# Altium footprint library LicheeDan.PcbLib: 15 footprints
Each footprint in its own frame and in the unit in brackets; x right, y up, seen from the top. Pads: shape width x height; smd on the part's side, far side on the other; paste and mask are expansions set on the pad; w line width, h text height; cw(c..) or ccw(c..) is an arc to the next point about the centre after c.
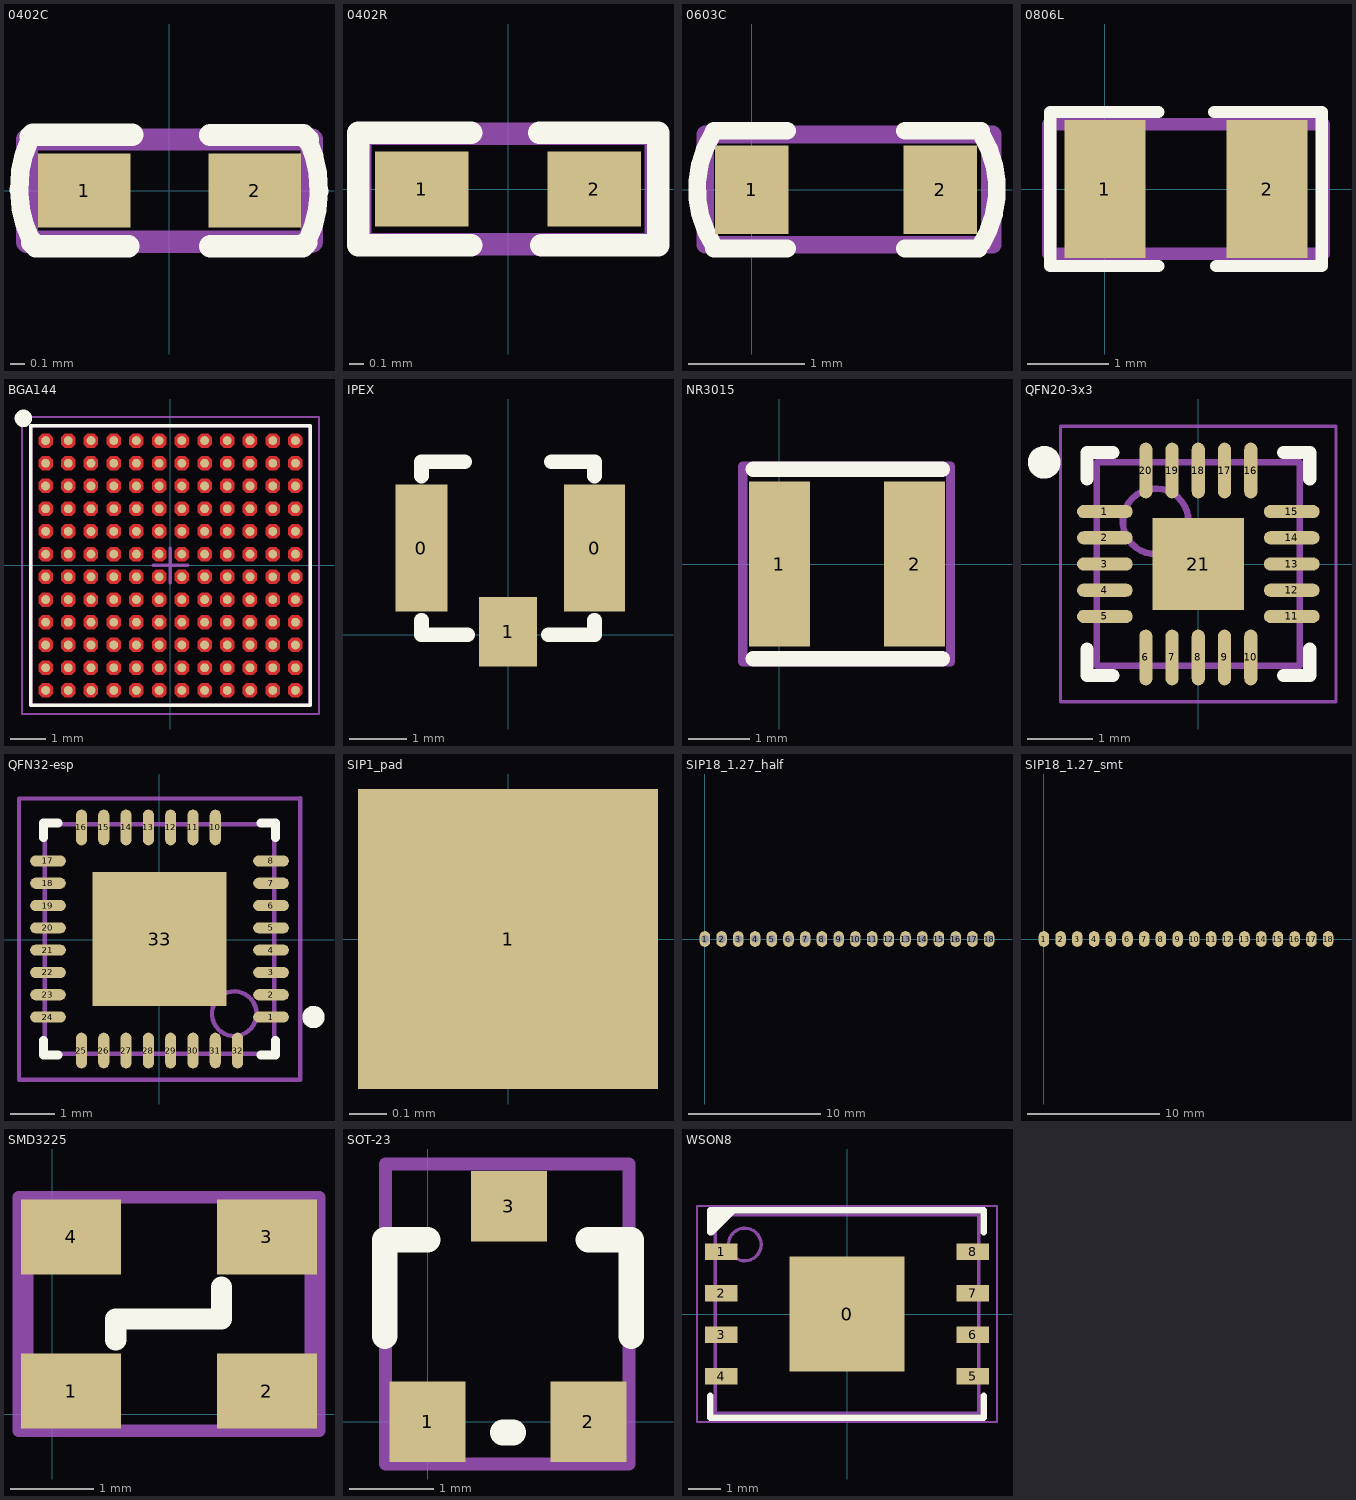
[diagram p0: the footprints below, top view; thin cyan lines are the x and y axes]

## 0402C [mil]
pads (2):
  rect 25x20 smd: 1(-23,0) 2(23,0)
Top Overlay:
  lines w5: -37.39,14.51 ccw(c-8.69,0.64) -37,-14 ; 37,-14 ccw(c8.49,0.25) 37.37,13.73
  lines w6: -37.39,14.51 -36.84,15.06 -10,15.06 ; -37,-14 -36,-15 -11,-15 ; 11,-15 36,-15 37,-14 ; 11,15 36.11,15 37.37,13.73
Mechanical 13:
  lines w6: -38.39,-13.78 38.39,-13.78 38.39,13.78 -38.39,13.78 -38.39,-13.78
  text ".Designator" at -10,-10 h20
Mechanical 15:
  lines w6: -38.39,-13.78 -38.39,13.78 38.39,13.78 38.39,-13.78 -38.39,-13.78
  text ".Comment" at -10,-10 h20
3D body "0402 SMD Capacitor.step": height 7.95, standoff 0, extent -19.68,-11.81 19.69,11.81

## 0402R [mil]
height 47.24
pads (2):
  rect 25x20 smd: 1(-23,0) 2(23,0)
Top Overlay:
  lines w6: -9.84,-15 -40,-15 -40,15 -9.84,15 ; 8.37,15 40,15 40,-15 8.86,-15
Mechanical 13:
  lines w6: -39.37,-14.76 39.37,-14.76 39.37,14.76 -39.37,14.76 -39.37,-14.76
  text ".Designator" at -35.43,-7.87 h20
Mechanical 15:
  lines w6: -39.37,-14.76 -39.37,14.76 39.37,14.76 39.37,-14.76 -39.37,-14.76
  text ".Comment" at -35.43,-11.81 h20
3D body "User Library-RES_1005-0402.STEP": height 16.14, standoff 0, extent -22.63,-10.82 22.64,10.83

## 0603C [mil]
pads (2):
  rect 25x30 smd: 1(0,0) 2(64,0)
Top Overlay:
  lines w6: -13.18,18.94 ccw(c16.81,0.23) -12.8,-19.09 ; -12.8,-20 12,-20 ; -12.8,20 12,20 ; 52,-20 77,-20 ; 52,20 77.93,20 ; 77.76,-18.7 ccw(c47.86,0.18) 77.93,18.78
Mechanical 13:
  lines w6: -15.75,-18.7 81.69,-18.7 81.69,18.7 -15.75,18.7 -15.75,-18.7
  text ".Designator" at -15.75,-7.87 h20
Mechanical 15:
  lines w6: -15.75,-18.7 -15.75,18.7 80.71,18.7 80.71,-18.7 -15.75,-18.7
  text ".Comment" at -15.75,-7.87 h20
3D body "User Library-0603 SMD Capacitor.STEP": height 11.89, standoff 0, extent 0,-15.75 62.99,15.75

## 0806L [mm]
height 0.254
pads (2):
  rect 1x1.7 smd: 1(0,0) 2(2,0)
Top Overlay:
  lines w0.152: 0.66,-0.95 -0.675,-0.95 -0.675,0.95 0.66,0.95 ; 1.346,0.95 2.675,0.95 2.675,-0.95 1.372,-0.95
Mechanical 13:
  lines w0.152: -0.7,-0.8 -0.7,0.8 2.7,0.8 2.7,-0.8 -0.7,-0.8
  text ".Designator" at -0.476,-0.469 h0.51
Mechanical 15:
  lines w0.152: -0.675,-0.8 2.7,-0.8 2.7,0.8 -0.675,0.8 -0.675,-0.8
  text ".Comment" at -0.6,-0.2 h0.51
3D body "User Library-0805 SMD R.STEP": height 0.77, standoff -0.01, extent 0,-0.625 2,0.625

## BGA144 [mm]
pads (144):
  round 0.254 smd mask+0.076: A1(-3.575,3.575) A2(-2.925,3.575) A3(-2.275,3.575) A4(-1.625,3.575) A5(-0.975,3.575) A6(-0.325,3.575) A7(0.325,3.575) A8(0.975,3.575) A9(1.625,3.575) A10(2.275,3.575) A11(2.925,3.575) A12(3.575,3.575) B1(-3.575,2.925) B2(-2.925,2.925) B3(-2.275,2.925) B4(-1.625,2.925) B5(-0.975,2.925) B6(-0.325,2.925) B7(0.325,2.925) B8(0.975,2.925) B9(1.625,2.925) B10(2.275,2.925) B11(2.925,2.925) B12(3.575,2.925) C1(-3.575,2.275) C2(-2.925,2.275) C3(-2.275,2.275) C4(-1.625,2.275) C5(-0.975,2.275) C6(-0.325,2.275) C7(0.325,2.275) C8(0.975,2.275) C9(1.625,2.275) C10(2.275,2.275) C11(2.925,2.275) C12(3.575,2.275) D1(-3.575,1.625) D2(-2.925,1.625) D3(-2.275,1.625) D4(-1.625,1.625) D5(-0.975,1.625) D6(-0.325,1.625) D7(0.325,1.625) D8(0.975,1.625) D9(1.625,1.625) D10(2.275,1.625) D11(2.925,1.625) D12(3.575,1.625) E1(-3.575,0.975) E2(-2.925,0.975) E3(-2.275,0.975) E4(-1.625,0.975) E5(-0.975,0.975) E6(-0.325,0.975) E7(0.325,0.975) E8(0.975,0.975) E9(1.625,0.975) E10(2.275,0.975) E11(2.925,0.975) E12(3.575,0.975) F1(-3.575,0.325) F2(-2.925,0.325) F3(-2.275,0.325) F4(-1.625,0.325) F5(-0.975,0.325) F6(-0.325,0.325) F7(0.325,0.325) F8(0.975,0.325) F9(1.625,0.325) F10(2.275,0.325) F11(2.925,0.325) F12(3.575,0.325) G1(-3.575,-0.325) G2(-2.925,-0.325) G3(-2.275,-0.325) G4(-1.625,-0.325) G5(-0.975,-0.325) G6(-0.325,-0.325) G7(0.325,-0.325) G8(0.975,-0.325) G9(1.625,-0.325) G10(2.275,-0.325) G11(2.925,-0.325) G12(3.575,-0.325) H1(-3.575,-0.975) H2(-2.925,-0.975) H3(-2.275,-0.975) H4(-1.625,-0.975) H5(-0.975,-0.975) H6(-0.325,-0.975) H7(0.325,-0.975) H8(0.975,-0.975) H9(1.625,-0.975) H10(2.275,-0.975) H11(2.925,-0.975) H12(3.575,-0.975) J1(-3.575,-1.625) J2(-2.925,-1.625) J3(-2.275,-1.625) J4(-1.625,-1.625) J5(-0.975,-1.625) J6(-0.325,-1.625) J7(0.325,-1.625) J8(0.975,-1.625) J9(1.625,-1.625) J10(2.275,-1.625) J11(2.925,-1.625) J12(3.575,-1.625) K1(-3.575,-2.275) K2(-2.925,-2.275) K3(-2.275,-2.275) K4(-1.625,-2.275) K5(-0.975,-2.275) K6(-0.325,-2.275) K7(0.325,-2.275) K8(0.975,-2.275) K9(1.625,-2.275) K10(2.275,-2.275) K11(2.925,-2.275) K12(3.575,-2.275) L1(-3.575,-2.925) L2(-2.925,-2.925) L3(-2.275,-2.925) L4(-1.625,-2.925) L5(-0.975,-2.925) L6(-0.325,-2.925) L7(0.325,-2.925) L8(0.975,-2.925) L9(1.625,-2.925) L10(2.275,-2.925) L11(2.925,-2.925) L12(3.575,-2.925) M1(-3.575,-3.575) M2(-2.925,-3.575) M3(-2.275,-3.575) M4(-1.625,-3.575) M5(-0.975,-3.575) M6(-0.325,-3.575) M7(0.325,-3.575) M8(0.975,-3.575) M9(1.625,-3.575) M10(2.275,-3.575) M11(2.925,-3.575) M12(3.575,-3.575)
Top Layer:
  pour cut-out: -3.675,3.375 -3.475,3.375 -3.375,3.475 -3.375,3.675 -3.475,3.775 -3.675,3.775 -3.775,3.675 -3.775,3.475
  pour cut-out: -3.025,3.375 -2.825,3.375 -2.725,3.475 -2.725,3.675 -2.825,3.775 -3.025,3.775 -3.125,3.675 -3.125,3.475
  pour cut-out: -2.375,3.375 -2.175,3.375 -2.075,3.475 -2.075,3.675 -2.175,3.775 -2.375,3.775 -2.475,3.675 -2.475,3.475
  pour cut-out: -1.725,3.375 -1.525,3.375 -1.425,3.475 -1.425,3.675 -1.525,3.775 -1.725,3.775 -1.825,3.675 -1.825,3.475
  pour cut-out: -1.075,3.375 -0.875,3.375 -0.775,3.475 -0.775,3.675 -0.875,3.775 -1.075,3.775 -1.175,3.675 -1.175,3.475
  pour cut-out: -0.425,3.375 -0.225,3.375 -0.125,3.475 -0.125,3.675 -0.225,3.775 -0.425,3.775 -0.525,3.675 -0.525,3.475
  pour cut-out: 0.225,3.375 0.425,3.375 0.525,3.475 0.525,3.675 0.425,3.775 0.225,3.775 0.125,3.675 0.125,3.475
  pour cut-out: 0.875,3.375 1.075,3.375 1.175,3.475 1.175,3.675 1.075,3.775 0.875,3.775 0.775,3.675 0.775,3.475
  pour cut-out: 1.525,3.375 1.725,3.375 1.825,3.475 1.825,3.675 1.725,3.775 1.525,3.775 1.425,3.675 1.425,3.475
  pour cut-out: 2.175,3.375 2.375,3.375 2.475,3.475 2.475,3.675 2.375,3.775 2.175,3.775 2.075,3.675 2.075,3.475
  pour cut-out: 2.825,3.375 3.025,3.375 3.125,3.475 3.125,3.675 3.025,3.775 2.825,3.775 2.725,3.675 2.725,3.475
  pour cut-out: 3.475,3.375 3.675,3.375 3.775,3.475 3.775,3.675 3.675,3.775 3.475,3.775 3.375,3.675 3.375,3.475
  pour cut-out: 3.475,2.725 3.675,2.725 3.775,2.825 3.775,3.025 3.675,3.125 3.475,3.125 3.375,3.025 3.375,2.825
  pour cut-out: 2.825,2.725 3.025,2.725 3.125,2.825 3.125,3.025 3.025,3.125 2.825,3.125 2.725,3.025 2.725,2.825
  pour cut-out: 2.175,2.725 2.375,2.725 2.475,2.825 2.475,3.025 2.375,3.125 2.175,3.125 2.075,3.025 2.075,2.825
  pour cut-out: 1.525,2.725 1.725,2.725 1.825,2.825 1.825,3.025 1.725,3.125 1.525,3.125 1.425,3.025 1.425,2.825
  pour cut-out: 0.875,2.725 1.075,2.725 1.175,2.825 1.175,3.025 1.075,3.125 0.875,3.125 0.775,3.025 0.775,2.825
  pour cut-out: 0.225,2.725 0.425,2.725 0.525,2.825 0.525,3.025 0.425,3.125 0.225,3.125 0.125,3.025 0.125,2.825
  pour cut-out: -0.425,2.725 -0.225,2.725 -0.125,2.825 -0.125,3.025 -0.225,3.125 -0.425,3.125 -0.525,3.025 -0.525,2.825
  pour cut-out: -1.075,2.725 -0.875,2.725 -0.775,2.825 -0.775,3.025 -0.875,3.125 -1.075,3.125 -1.175,3.025 -1.175,2.825
  pour cut-out: -1.725,2.725 -1.525,2.725 -1.425,2.825 -1.425,3.025 -1.525,3.125 -1.725,3.125 -1.825,3.025 -1.825,2.825
  pour cut-out: -2.375,2.725 -2.175,2.725 -2.075,2.825 -2.075,3.025 -2.175,3.125 -2.375,3.125 -2.475,3.025 -2.475,2.825
  pour cut-out: -3.025,2.725 -2.825,2.725 -2.725,2.825 -2.725,3.025 -2.825,3.125 -3.025,3.125 -3.125,3.025 -3.125,2.825
  pour cut-out: -3.675,2.725 -3.475,2.725 -3.375,2.825 -3.375,3.025 -3.475,3.125 -3.675,3.125 -3.775,3.025 -3.775,2.825
  pour cut-out: 3.475,2.075 3.675,2.075 3.775,2.175 3.775,2.375 3.675,2.475 3.475,2.475 3.375,2.375 3.375,2.175
  pour cut-out: 2.825,2.075 3.025,2.075 3.125,2.175 3.125,2.375 3.025,2.475 2.825,2.475 2.725,2.375 2.725,2.175
  pour cut-out: 2.175,2.075 2.375,2.075 2.475,2.175 2.475,2.375 2.375,2.475 2.175,2.475 2.075,2.375 2.075,2.175
  pour cut-out: 1.525,2.075 1.725,2.075 1.825,2.175 1.825,2.375 1.725,2.475 1.525,2.475 1.425,2.375 1.425,2.175
  pour cut-out: 0.875,2.075 1.075,2.075 1.175,2.175 1.175,2.375 1.075,2.475 0.875,2.475 0.775,2.375 0.775,2.175
  pour cut-out: 0.225,2.075 0.425,2.075 0.525,2.175 0.525,2.375 0.425,2.475 0.225,2.475 0.125,2.375 0.125,2.175
  pour cut-out: -0.425,2.075 -0.225,2.075 -0.125,2.175 -0.125,2.375 -0.225,2.475 -0.425,2.475 -0.525,2.375 -0.525,2.175
  pour cut-out: -1.075,2.075 -0.875,2.075 -0.775,2.175 -0.775,2.375 -0.875,2.475 -1.075,2.475 -1.175,2.375 -1.175,2.175
  pour cut-out: -1.725,2.075 -1.525,2.075 -1.425,2.175 -1.425,2.375 -1.525,2.475 -1.725,2.475 -1.825,2.375 -1.825,2.175
  pour cut-out: -2.375,2.075 -2.175,2.075 -2.075,2.175 -2.075,2.375 -2.175,2.475 -2.375,2.475 -2.475,2.375 -2.475,2.175
  pour cut-out: -3.025,2.075 -2.825,2.075 -2.725,2.175 -2.725,2.375 -2.825,2.475 -3.025,2.475 -3.125,2.375 -3.125,2.175
  pour cut-out: -3.675,2.075 -3.475,2.075 -3.375,2.175 -3.375,2.375 -3.475,2.475 -3.675,2.475 -3.775,2.375 -3.775,2.175
  pour cut-out: 3.475,1.425 3.675,1.425 3.775,1.525 3.775,1.725 3.675,1.825 3.475,1.825 3.375,1.725 3.375,1.525
  pour cut-out: 2.825,1.425 3.025,1.425 3.125,1.525 3.125,1.725 3.025,1.825 2.825,1.825 2.725,1.725 2.725,1.525
  pour cut-out: 2.175,1.425 2.375,1.425 2.475,1.525 2.475,1.725 2.375,1.825 2.175,1.825 2.075,1.725 2.075,1.525
  pour cut-out: 1.525,1.425 1.725,1.425 1.825,1.525 1.825,1.725 1.725,1.825 1.525,1.825 1.425,1.725 1.425,1.525
  pour cut-out: 0.875,1.425 1.075,1.425 1.175,1.525 1.175,1.725 1.075,1.825 0.875,1.825 0.775,1.725 0.775,1.525
  pour cut-out: 0.225,1.425 0.425,1.425 0.525,1.525 0.525,1.725 0.425,1.825 0.225,1.825 0.125,1.725 0.125,1.525
  pour cut-out: -0.425,1.425 -0.225,1.425 -0.125,1.525 -0.125,1.725 -0.225,1.825 -0.425,1.825 -0.525,1.725 -0.525,1.525
  pour cut-out: -1.075,1.425 -0.875,1.425 -0.775,1.525 -0.775,1.725 -0.875,1.825 -1.075,1.825 -1.175,1.725 -1.175,1.525
  pour cut-out: -1.725,1.425 -1.525,1.425 -1.425,1.525 -1.425,1.725 -1.525,1.825 -1.725,1.825 -1.825,1.725 -1.825,1.525
  pour cut-out: -2.375,1.425 -2.175,1.425 -2.075,1.525 -2.075,1.725 -2.175,1.825 -2.375,1.825 -2.475,1.725 -2.475,1.525
  pour cut-out: -3.025,1.425 -2.825,1.425 -2.725,1.525 -2.725,1.725 -2.825,1.825 -3.025,1.825 -3.125,1.725 -3.125,1.525
  pour cut-out: -3.675,1.425 -3.475,1.425 -3.375,1.525 -3.375,1.725 -3.475,1.825 -3.675,1.825 -3.775,1.725 -3.775,1.525
  pour cut-out: -3.675,-1.175 -3.475,-1.175 -3.375,-1.075 -3.375,-0.875 -3.475,-0.775 -3.675,-0.775 -3.775,-0.875 -3.775,-1.075
  pour cut-out: -3.025,-1.175 -2.825,-1.175 -2.725,-1.075 -2.725,-0.875 -2.825,-0.775 -3.025,-0.775 -3.125,-0.875 -3.125,-1.075
  pour cut-out: -2.375,-1.175 -2.175,-1.175 -2.075,-1.075 -2.075,-0.875 -2.175,-0.775 -2.375,-0.775 -2.475,-0.875 -2.475,-1.075
  pour cut-out: -1.725,-1.175 -1.525,-1.175 -1.425,-1.075 -1.425,-0.875 -1.525,-0.775 -1.725,-0.775 -1.825,-0.875 -1.825,-1.075
  pour cut-out: -1.075,-1.175 -0.875,-1.175 -0.775,-1.075 -0.775,-0.875 -0.875,-0.775 -1.075,-0.775 -1.175,-0.875 -1.175,-1.075
  pour cut-out: -0.425,-1.175 -0.225,-1.175 -0.125,-1.075 -0.125,-0.875 -0.225,-0.775 -0.425,-0.775 -0.525,-0.875 -0.525,-1.075
  pour cut-out: 0.225,-1.175 0.425,-1.175 0.525,-1.075 0.525,-0.875 0.425,-0.775 0.225,-0.775 0.125,-0.875 0.125,-1.075
  pour cut-out: 0.875,-1.175 1.075,-1.175 1.175,-1.075 1.175,-0.875 1.075,-0.775 0.875,-0.775 0.775,-0.875 0.775,-1.075
  pour cut-out: 1.525,-1.175 1.725,-1.175 1.825,-1.075 1.825,-0.875 1.725,-0.775 1.525,-0.775 1.425,-0.875 1.425,-1.075
  pour cut-out: 2.175,-1.175 2.375,-1.175 2.475,-1.075 2.475,-0.875 2.375,-0.775 2.175,-0.775 2.075,-0.875 2.075,-1.075
  pour cut-out: 2.825,-1.175 3.025,-1.175 3.125,-1.075 3.125,-0.875 3.025,-0.775 2.825,-0.775 2.725,-0.875 2.725,-1.075
  pour cut-out: 3.475,-1.175 3.675,-1.175 3.775,-1.075 3.775,-0.875 3.675,-0.775 3.475,-0.775 3.375,-0.875 3.375,-1.075
  pour cut-out: -3.675,-0.525 -3.475,-0.525 -3.375,-0.425 -3.375,-0.225 -3.475,-0.125 -3.675,-0.125 -3.775,-0.225 -3.775,-0.425
  pour cut-out: -3.025,-0.525 -2.825,-0.525 -2.725,-0.425 -2.725,-0.225 -2.825,-0.125 -3.025,-0.125 -3.125,-0.225 -3.125,-0.425
  pour cut-out: -2.375,-0.525 -2.175,-0.525 -2.075,-0.425 -2.075,-0.225 -2.175,-0.125 -2.375,-0.125 -2.475,-0.225 -2.475,-0.425
  pour cut-out: -1.725,-0.525 -1.525,-0.525 -1.425,-0.425 -1.425,-0.225 -1.525,-0.125 -1.725,-0.125 -1.825,-0.225 -1.825,-0.425
  pour cut-out: -1.075,-0.525 -0.875,-0.525 -0.775,-0.425 -0.775,-0.225 -0.875,-0.125 -1.075,-0.125 -1.175,-0.225 -1.175,-0.425
  pour cut-out: -0.425,-0.525 -0.225,-0.525 -0.125,-0.425 -0.125,-0.225 -0.225,-0.125 -0.425,-0.125 -0.525,-0.225 -0.525,-0.425
  pour cut-out: 0.225,-0.525 0.425,-0.525 0.525,-0.425 0.525,-0.225 0.425,-0.125 0.225,-0.125 0.125,-0.225 0.125,-0.425
  pour cut-out: 0.875,-0.525 1.075,-0.525 1.175,-0.425 1.175,-0.225 1.075,-0.125 0.875,-0.125 0.775,-0.225 0.775,-0.425
  pour cut-out: 1.525,-0.525 1.725,-0.525 1.825,-0.425 1.825,-0.225 1.725,-0.125 1.525,-0.125 1.425,-0.225 1.425,-0.425
  pour cut-out: 2.175,-0.525 2.375,-0.525 2.475,-0.425 2.475,-0.225 2.375,-0.125 2.175,-0.125 2.075,-0.225 2.075,-0.425
  pour cut-out: 2.825,-0.525 3.025,-0.525 3.125,-0.425 3.125,-0.225 3.025,-0.125 2.825,-0.125 2.725,-0.225 2.725,-0.425
  pour cut-out: 3.475,-0.525 3.675,-0.525 3.775,-0.425 3.775,-0.225 3.675,-0.125 3.475,-0.125 3.375,-0.225 3.375,-0.425
  pour cut-out: -3.675,0.125 -3.475,0.125 -3.375,0.225 -3.375,0.425 -3.475,0.525 -3.675,0.525 -3.775,0.425 -3.775,0.225
  pour cut-out: -3.025,0.125 -2.825,0.125 -2.725,0.225 -2.725,0.425 -2.825,0.525 -3.025,0.525 -3.125,0.425 -3.125,0.225
  pour cut-out: -2.375,0.125 -2.175,0.125 -2.075,0.225 -2.075,0.425 -2.175,0.525 -2.375,0.525 -2.475,0.425 -2.475,0.225
  pour cut-out: -1.725,0.125 -1.525,0.125 -1.425,0.225 -1.425,0.425 -1.525,0.525 -1.725,0.525 -1.825,0.425 -1.825,0.225
  pour cut-out: -1.075,0.125 -0.875,0.125 -0.775,0.225 -0.775,0.425 -0.875,0.525 -1.075,0.525 -1.175,0.425 -1.175,0.225
  pour cut-out: -0.425,0.125 -0.225,0.125 -0.125,0.225 -0.125,0.425 -0.225,0.525 -0.425,0.525 -0.525,0.425 -0.525,0.225
  pour cut-out: 0.225,0.125 0.425,0.125 0.525,0.225 0.525,0.425 0.425,0.525 0.225,0.525 0.125,0.425 0.125,0.225
  pour cut-out: 0.875,0.125 1.075,0.125 1.175,0.225 1.175,0.425 1.075,0.525 0.875,0.525 0.775,0.425 0.775,0.225
  pour cut-out: 1.525,0.125 1.725,0.125 1.825,0.225 1.825,0.425 1.725,0.525 1.525,0.525 1.425,0.425 1.425,0.225
  pour cut-out: 2.175,0.125 2.375,0.125 2.475,0.225 2.475,0.425 2.375,0.525 2.175,0.525 2.075,0.425 2.075,0.225
  pour cut-out: 2.825,0.125 3.025,0.125 3.125,0.225 3.125,0.425 3.025,0.525 2.825,0.525 2.725,0.425 2.725,0.225
  pour cut-out: 3.475,0.125 3.675,0.125 3.775,0.225 3.775,0.425 3.675,0.525 3.475,0.525 3.375,0.425 3.375,0.225
  pour cut-out: 3.475,0.775 3.675,0.775 3.775,0.875 3.775,1.075 3.675,1.175 3.475,1.175 3.375,1.075 3.375,0.875
  pour cut-out: 2.825,0.775 3.025,0.775 3.125,0.875 3.125,1.075 3.025,1.175 2.825,1.175 2.725,1.075 2.725,0.875
  pour cut-out: 2.175,0.775 2.375,0.775 2.475,0.875 2.475,1.075 2.375,1.175 2.175,1.175 2.075,1.075 2.075,0.875
  pour cut-out: 1.525,0.775 1.725,0.775 1.825,0.875 1.825,1.075 1.725,1.175 1.525,1.175 1.425,1.075 1.425,0.875
  pour cut-out: 0.875,0.775 1.075,0.775 1.175,0.875 1.175,1.075 1.075,1.175 0.875,1.175 0.775,1.075 0.775,0.875
  pour cut-out: 0.225,0.775 0.425,0.775 0.525,0.875 0.525,1.075 0.425,1.175 0.225,1.175 0.125,1.075 0.125,0.875
  pour cut-out: -0.425,0.775 -0.225,0.775 -0.125,0.875 -0.125,1.075 -0.225,1.175 -0.425,1.175 -0.525,1.075 -0.525,0.875
  pour cut-out: -1.075,0.775 -0.875,0.775 -0.775,0.875 -0.775,1.075 -0.875,1.175 -1.075,1.175 -1.175,1.075 -1.175,0.875
  pour cut-out: -1.725,0.775 -1.525,0.775 -1.425,0.875 -1.425,1.075 -1.525,1.175 -1.725,1.175 -1.825,1.075 -1.825,0.875
  pour cut-out: -2.375,0.775 -2.175,0.775 -2.075,0.875 -2.075,1.075 -2.175,1.175 -2.375,1.175 -2.475,1.075 -2.475,0.875
  pour cut-out: -3.025,0.775 -2.825,0.775 -2.725,0.875 -2.725,1.075 -2.825,1.175 -3.025,1.175 -3.125,1.075 -3.125,0.875
  pour cut-out: -3.675,0.775 -3.475,0.775 -3.375,0.875 -3.375,1.075 -3.475,1.175 -3.675,1.175 -3.775,1.075 -3.775,0.875
  pour cut-out: -3.675,-3.775 -3.475,-3.775 -3.375,-3.675 -3.375,-3.475 -3.475,-3.375 -3.675,-3.375 -3.775,-3.475 -3.775,-3.675
  pour cut-out: -3.025,-3.775 -2.825,-3.775 -2.725,-3.675 -2.725,-3.475 -2.825,-3.375 -3.025,-3.375 -3.125,-3.475 -3.125,-3.675
  pour cut-out: -2.375,-3.775 -2.175,-3.775 -2.075,-3.675 -2.075,-3.475 -2.175,-3.375 -2.375,-3.375 -2.475,-3.475 -2.475,-3.675
  pour cut-out: -1.725,-3.775 -1.525,-3.775 -1.425,-3.675 -1.425,-3.475 -1.525,-3.375 -1.725,-3.375 -1.825,-3.475 -1.825,-3.675
  pour cut-out: -1.075,-3.775 -0.875,-3.775 -0.775,-3.675 -0.775,-3.475 -0.875,-3.375 -1.075,-3.375 -1.175,-3.475 -1.175,-3.675
  pour cut-out: -0.425,-3.775 -0.225,-3.775 -0.125,-3.675 -0.125,-3.475 -0.225,-3.375 -0.425,-3.375 -0.525,-3.475 -0.525,-3.675
  pour cut-out: 0.225,-3.775 0.425,-3.775 0.525,-3.675 0.525,-3.475 0.425,-3.375 0.225,-3.375 0.125,-3.475 0.125,-3.675
  pour cut-out: 0.875,-3.775 1.075,-3.775 1.175,-3.675 1.175,-3.475 1.075,-3.375 0.875,-3.375 0.775,-3.475 0.775,-3.675
  pour cut-out: 1.525,-3.775 1.725,-3.775 1.825,-3.675 1.825,-3.475 1.725,-3.375 1.525,-3.375 1.425,-3.475 1.425,-3.675
  pour cut-out: 2.175,-3.775 2.375,-3.775 2.475,-3.675 2.475,-3.475 2.375,-3.375 2.175,-3.375 2.075,-3.475 2.075,-3.675
  pour cut-out: 2.825,-3.775 3.025,-3.775 3.125,-3.675 3.125,-3.475 3.025,-3.375 2.825,-3.375 2.725,-3.475 2.725,-3.675
  pour cut-out: 3.475,-3.775 3.675,-3.775 3.775,-3.675 3.775,-3.475 3.675,-3.375 3.475,-3.375 3.375,-3.475 3.375,-3.675
  pour cut-out: -3.675,-3.125 -3.475,-3.125 -3.375,-3.025 -3.375,-2.825 -3.475,-2.725 -3.675,-2.725 -3.775,-2.825 -3.775,-3.025
  pour cut-out: -3.025,-3.125 -2.825,-3.125 -2.725,-3.025 -2.725,-2.825 -2.825,-2.725 -3.025,-2.725 -3.125,-2.825 -3.125,-3.025
  pour cut-out: -2.375,-3.125 -2.175,-3.125 -2.075,-3.025 -2.075,-2.825 -2.175,-2.725 -2.375,-2.725 -2.475,-2.825 -2.475,-3.025
  pour cut-out: -1.725,-3.125 -1.525,-3.125 -1.425,-3.025 -1.425,-2.825 -1.525,-2.725 -1.725,-2.725 -1.825,-2.825 -1.825,-3.025
  pour cut-out: -1.075,-3.125 -0.875,-3.125 -0.775,-3.025 -0.775,-2.825 -0.875,-2.725 -1.075,-2.725 -1.175,-2.825 -1.175,-3.025
  pour cut-out: -0.425,-3.125 -0.225,-3.125 -0.125,-3.025 -0.125,-2.825 -0.225,-2.725 -0.425,-2.725 -0.525,-2.825 -0.525,-3.025
  pour cut-out: 0.225,-3.125 0.425,-3.125 0.525,-3.025 0.525,-2.825 0.425,-2.725 0.225,-2.725 0.125,-2.825 0.125,-3.025
  pour cut-out: 0.875,-3.125 1.075,-3.125 1.175,-3.025 1.175,-2.825 1.075,-2.725 0.875,-2.725 0.775,-2.825 0.775,-3.025
  pour cut-out: 1.525,-3.125 1.725,-3.125 1.825,-3.025 1.825,-2.825 1.725,-2.725 1.525,-2.725 1.425,-2.825 1.425,-3.025
  pour cut-out: 2.175,-3.125 2.375,-3.125 2.475,-3.025 2.475,-2.825 2.375,-2.725 2.175,-2.725 2.075,-2.825 2.075,-3.025
  pour cut-out: 2.825,-3.125 3.025,-3.125 3.125,-3.025 3.125,-2.825 3.025,-2.725 2.825,-2.725 2.725,-2.825 2.725,-3.025
  pour cut-out: 3.475,-3.125 3.675,-3.125 3.775,-3.025 3.775,-2.825 3.675,-2.725 3.475,-2.725 3.375,-2.825 3.375,-3.025
  pour cut-out: -3.675,-2.475 -3.475,-2.475 -3.375,-2.375 -3.375,-2.175 -3.475,-2.075 -3.675,-2.075 -3.775,-2.175 -3.775,-2.375
  pour cut-out: -3.025,-2.475 -2.825,-2.475 -2.725,-2.375 -2.725,-2.175 -2.825,-2.075 -3.025,-2.075 -3.125,-2.175 -3.125,-2.375
  pour cut-out: -2.375,-2.475 -2.175,-2.475 -2.075,-2.375 -2.075,-2.175 -2.175,-2.075 -2.375,-2.075 -2.475,-2.175 -2.475,-2.375
  pour cut-out: -1.725,-2.475 -1.525,-2.475 -1.425,-2.375 -1.425,-2.175 -1.525,-2.075 -1.725,-2.075 -1.825,-2.175 -1.825,-2.375
  pour cut-out: -1.075,-2.475 -0.875,-2.475 -0.775,-2.375 -0.775,-2.175 -0.875,-2.075 -1.075,-2.075 -1.175,-2.175 -1.175,-2.375
  pour cut-out: -0.425,-2.475 -0.225,-2.475 -0.125,-2.375 -0.125,-2.175 -0.225,-2.075 -0.425,-2.075 -0.525,-2.175 -0.525,-2.375
  pour cut-out: 0.225,-2.475 0.425,-2.475 0.525,-2.375 0.525,-2.175 0.425,-2.075 0.225,-2.075 0.125,-2.175 0.125,-2.375
  pour cut-out: 0.875,-2.475 1.075,-2.475 1.175,-2.375 1.175,-2.175 1.075,-2.075 0.875,-2.075 0.775,-2.175 0.775,-2.375
  pour cut-out: 1.525,-2.475 1.725,-2.475 1.825,-2.375 1.825,-2.175 1.725,-2.075 1.525,-2.075 1.425,-2.175 1.425,-2.375
  pour cut-out: 2.175,-2.475 2.375,-2.475 2.475,-2.375 2.475,-2.175 2.375,-2.075 2.175,-2.075 2.075,-2.175 2.075,-2.375
  pour cut-out: 2.825,-2.475 3.025,-2.475 3.125,-2.375 3.125,-2.175 3.025,-2.075 2.825,-2.075 2.725,-2.175 2.725,-2.375
  pour cut-out: 3.475,-2.475 3.675,-2.475 3.775,-2.375 3.775,-2.175 3.675,-2.075 3.475,-2.075 3.375,-2.175 3.375,-2.375
  pour cut-out: 3.475,-1.825 3.675,-1.825 3.775,-1.725 3.775,-1.525 3.675,-1.425 3.475,-1.425 3.375,-1.525 3.375,-1.725
  pour cut-out: 2.825,-1.825 3.025,-1.825 3.125,-1.725 3.125,-1.525 3.025,-1.425 2.825,-1.425 2.725,-1.525 2.725,-1.725
  pour cut-out: 2.175,-1.825 2.375,-1.825 2.475,-1.725 2.475,-1.525 2.375,-1.425 2.175,-1.425 2.075,-1.525 2.075,-1.725
  pour cut-out: 1.525,-1.825 1.725,-1.825 1.825,-1.725 1.825,-1.525 1.725,-1.425 1.525,-1.425 1.425,-1.525 1.425,-1.725
  pour cut-out: 0.875,-1.825 1.075,-1.825 1.175,-1.725 1.175,-1.525 1.075,-1.425 0.875,-1.425 0.775,-1.525 0.775,-1.725
  pour cut-out: 0.225,-1.825 0.425,-1.825 0.525,-1.725 0.525,-1.525 0.425,-1.425 0.225,-1.425 0.125,-1.525 0.125,-1.725
  pour cut-out: -0.425,-1.825 -0.225,-1.825 -0.125,-1.725 -0.125,-1.525 -0.225,-1.425 -0.425,-1.425 -0.525,-1.525 -0.525,-1.725
  pour cut-out: -1.075,-1.825 -0.875,-1.825 -0.775,-1.725 -0.775,-1.525 -0.875,-1.425 -1.075,-1.425 -1.175,-1.525 -1.175,-1.725
  pour cut-out: -1.725,-1.825 -1.525,-1.825 -1.425,-1.725 -1.425,-1.525 -1.525,-1.425 -1.725,-1.425 -1.825,-1.525 -1.825,-1.725
  pour cut-out: -2.375,-1.825 -2.175,-1.825 -2.075,-1.725 -2.075,-1.525 -2.175,-1.425 -2.375,-1.425 -2.475,-1.525 -2.475,-1.725
  pour cut-out: -3.025,-1.825 -2.825,-1.825 -2.725,-1.725 -2.725,-1.525 -2.825,-1.425 -3.025,-1.425 -3.125,-1.525 -3.125,-1.725
  pour cut-out: -3.675,-1.825 -3.475,-1.825 -3.375,-1.725 -3.375,-1.525 -3.475,-1.425 -3.675,-1.425 -3.775,-1.525 -3.775,-1.725
Top Overlay:
  circle w0.25: c-4.21,4.21 r0.125
  lines w0.102: -4,-4 -4,4 4,4 4,-4 -4,-4
Mechanical 13:
  lines w0.1: -4,-4 4,-4 4,4 -4,4 -4,-4
Mechanical 15:
  lines w0.05: -4.25,-4.25 4.25,-4.25 4.25,4.25 -4.25,4.25 -4.25,-4.25
  lines w0.1: -0.5,0 0.5,0 ; 0,-0.5 0,0.5
3D body "BGA144C65P12X12_800X800X95.step": height 0.95, standoff 0.01, extent -3.975,-3.975 4.025,4.025

## IPEX [mm]
pads (3):
  rect 0.9x2.2 smd: 0(-1.5,1.5)
  rect 1.05x2.2 smd: 0(1.5,1.5)
  rect 1x1.2 smd: 1(0,0.05)
Top Overlay:
  lines w0.254: -1.5,0.25 -1.5,0 -0.7,0 ; -1.5,2.75 -1.5,3 -0.75,3 ; 0.7,0 1.5,0 1.5,0.25 ; 0.75,3 1.5,3 1.5,2.75
3D body "User Library-20279-001.STEP": height 1.25, standoff -0.01, extent -1.5,-0.05 1.5,3.05

## NR3015 [mm]
pads (2):
  rect 1x2.7 smd: 1(0,0) 2(2.21,0)
Top Overlay:
  lines w0.254: -0.432,-1.549 2.667,-1.549 ; -0.432,1.549 2.667,1.549
Mechanical 13:
  lines w0.152: -0.6,-1.6 2.8,-1.6 2.8,1.6 -0.6,1.6 -0.6,-1.6
  text ".Designator" at -0.254,-0.254 h0.51
Mechanical 15:
  lines w0.152: -0.6,-1.6 -0.6,1.6 2.8,1.6 2.8,-1.6 -0.6,-1.6
  text ".Comment" at -0.254,-0.254 h0.51
3D body: height 1.5, standoff 0, extent -0.6,-1.6 2.8,1.6

## QFN20-3x3 [mm] "QFN, 20-Leads, Body 3.00x3.00mm, Pitch 0.40mm"
height 0.8
pads (21):
  oval 0.85x0.2 smd: 1(-1.425,0.8) 2(-1.425,0.4) 3(-1.425,0) 4(-1.425,-0.4) 5(-1.425,-0.8) 11(1.425,-0.8) 12(1.425,-0.4) 13(1.425,0) 14(1.425,0.4) 15(1.425,0.8)
  oval 0.2x0.85 smd: 6(-0.8,-1.425) 7(-0.4,-1.425) 8(0,-1.425) 9(0.4,-1.425) 10(0.8,-1.425) 16(0.8,1.425) 17(0.4,1.425) 18(0,1.425) 19(-0.4,1.425) 20(-0.8,1.425)
  rect 1.4x1.4 smd: 21(0,0)
Top Overlay:
  circle w0.25: c-2.35,1.55 r0.125
  lines w0.2: -1.7,-1.3 -1.7,-1.7 -1.3,-1.7 ; -1.7,1.3 -1.7,1.7 -1.3,1.7 ; 1.3,-1.7 1.7,-1.7 1.7,-1.3 ; 1.3,1.7 1.7,1.7 1.7,1.3
Mechanical 13:
  circle w0.1: c-0.65,0.65 r0.5
  lines w0.1: -1.55,-1.55 1.55,-1.55 1.55,1.55 -1.55,1.55 -1.55,-1.55
Mechanical 15:
  lines w0.05: -2.1,-2.1 2.1,-2.1 2.1,2.1 -2.1,2.1 -2.1,-2.1
  lines w0.1: -0.5,0 0.5,0 ; 0,-0.5 0,0.5
3D body: height 0.8, standoff 0.18, extent -1.55,-1.55 1.55,1.55

## QFN32-esp [mm]
pads (33):
  oval 0.8x0.25 smd: 1(2.503,-1.739) 2(2.503,-1.239) 3(2.503,-0.739) 4(2.503,-0.239) 5(2.503,0.261) 6(2.503,0.761) 7(2.503,1.261) 8(2.503,1.761) 17(-2.497,1.761) 18(-2.497,1.261) 19(-2.497,0.761) 20(-2.497,0.261) 21(-2.497,-0.239) 22(-2.497,-0.739) 23(-2.497,-1.239) 24(-2.497,-1.739)
  oval 0.25x0 smd: 9(1.753,2.511)
  oval 0.25x0.8 smd: 10(1.253,2.511) 11(0.753,2.511) 12(0.253,2.511) 13(-0.247,2.511) 14(-0.747,2.511) 15(-1.247,2.511) 16(-1.747,2.511) 25(-1.747,-2.489) 26(-1.247,-2.489) 27(-0.747,-2.489) 28(-0.247,-2.489) 29(0.253,-2.489) 30(0.753,-2.489) 31(1.253,-2.489) 32(1.753,-2.489)
  rect 3x3 smd paste-2.54: 33(0.003,0.011)
Top Overlay:
  circle w0.25: c3.453,-1.739 r0.125
  lines w0.2: -2.597,-2.264 -2.597,-2.589 -2.272,-2.589 ; -2.597,2.286 -2.597,2.611 -2.272,2.611 ; 2.278,-2.589 2.603,-2.589 2.603,-2.264 ; 2.278,2.611 2.603,2.611 2.603,2.286
Top Paste:
  region: 0.153,-1.489 0.153,-0.139 1.503,-0.139 1.503,-1.489
  region: 1.503,0.161 0.153,0.161 0.153,1.511 1.503,1.511
  region: -0.147,1.511 -0.147,0.161 -1.497,0.161 -1.497,1.511
  region: -1.497,-0.139 -0.147,-0.139 -0.147,-1.489 -1.497,-1.489
Mechanical 13:
  circle w0.1: c1.678,-1.664 r0.5
  lines w0.1: -2.572,-2.564 -2.572,2.586 2.578,2.586 2.578,-2.564 -2.572,-2.564
Mechanical 15:
  lines w0.1: -0.497,0.011 0.503,0.011 ; 0.003,-0.489 0.003,0.511 ; -3.147,-3.139 -3.147,3.161 3.153,3.161 3.153,-3.139 -3.147,-3.139
3D body "User Library-QFN-32-5x5mm-WithPad.step": height 0.8, standoff 0, extent -2.508,-2.499 2.512,2.521

## SIP1_pad [mm]
height 1.2
pads (1):
  rect 0.8x0.8 smd: 1(0,0)

## SIP18_1.27_half [mm]
height 1.2
pads (18):
  oval 0.8x1.2 hole 0.6: 1(0,0) 2(1.27,0) 3(2.54,0) 4(3.81,0) 5(5.08,0) 6(6.35,0) 7(7.62,0) 8(8.89,0) 9(10.16,0) 10(11.43,0) 11(12.7,0) 12(13.97,0) 13(15.24,0) 14(16.51,0) 15(17.78,0) 16(19.05,0) 17(20.32,0) 18(21.59,0)

## SIP18_1.27_smt [mm]
pads (18):
  oval 0.8x1.2 smd: 1(0,0) 2(1.27,0) 3(2.54,0) 4(3.81,0) 5(5.08,0) 6(6.35,0) 7(7.62,0) 8(8.89,0) 9(10.16,0) 10(11.43,0) 11(12.7,0) 12(13.97,0) 13(15.24,0) 14(16.51,0) 15(17.78,0) 16(19.05,0) 17(20.32,0) 18(21.59,0)

## SMD3225 [mm]
pads (4):
  rect 1.2x0.9 smd: 1(0.225,0.275) 2(2.575,0.275) 3(2.575,2.125) 4(0.225,2.125)
Top Overlay:
  lines w0.254: 0.762,0.887 0.762,1.141 2.032,1.141 2.032,1.522
Mechanical 13:
  lines w0.152: -0.4,-0.2 3.2,-0.2 3.2,2.6 -0.4,2.6 -0.4,-0.2
  text ".Designator" at -0.354,0.946 h0.51
Mechanical 15:
  lines w0.152: -0.3,-0.2 -0.3,2.6 3.1,2.6 3.1,-0.2 -0.3,-0.2
  text ".Comment" at -0.354,0.946 h0.51
3D body "XTAL-3225.STEP": height 0.8, standoff 0, extent -0.149,-0.068 3.051,2.432

## SOT-23 [mm]
height 1.2
pads (3):
  rect 0.9x0.95 smd: 1(0,0) 2(1.905,0)
  rect 0.9x0.838 smd: 3(0.962,2.555)
Top Overlay:
  lines w0.305: -0.508,1.016 -0.508,2.159 0,2.159 ; 0.889,-0.127 1.016,-0.127 ; 1.905,2.159 2.413,2.159 2.413,1.016
Mechanical 13:
  lines w0.152: -0.5,-0.5 -0.5,3.055 2.387,3.055 2.387,-0.5 -0.5,-0.5
  text ".Designator" at -0.554,0.946 h0.51
Mechanical 15:
  lines w0.152: -0.5,-0.5 2.387,-0.5 2.387,3.055 -0.5,3.055 -0.5,-0.5
  text ".Comment" at -0.567,0.901 h0.51
3D body "SOT-23-3.STEP": height 1.2, standoff 0, extent -0.521,-0.196 2.379,2.604

## WSON8 [mm] "WSON8"
height 0.8
pads (9):
  rect 3.5x3.5 smd: 0(0,0)
  rect 1x0.5 smd: 1(-3.845,1.905) 2(-3.845,0.635) 3(-3.845,-0.635) 4(-3.845,-1.905) 5(3.845,-1.905) 6(3.845,-0.635) 7(3.845,0.635) 8(3.845,1.905)
Top Overlay:
  lines w0.2: -4.175,-2.505 -4.175,-3.175 -3.47,-3.175 ; -4.175,2.505 -4.175,3.175 -3.47,3.175 ; 3.47,-3.175 4.175,-3.175 4.175,-2.505 ; 3.47,3.175 4.175,3.175 4.175,2.505
  lines w0.203: -4.175,2.505 -4.14,2.505 -3.47,3.175 3.47,3.175 ; -4.125,3.125 -4.125,2.775 -3.725,3.175 ; -3.95,3.075 -3.95,3.175 ; -3.47,-3.175 3.47,-3.175 ; -3.725,3.175 -3.725,3.175
Mechanical 13:
  circle w0.1: c-3.125,2.125 r0.5
  lines w0.1: -4.025,-3.025 -4.025,3.025 4.025,3.025 4.025,-3.025 -4.025,-3.025
Mechanical 15:
  lines w0.05: -4.585,-3.3 -4.585,3.3 4.585,3.3 4.585,-3.3 -4.585,-3.3
  lines w0.1: -0.5,0 0.5,0 ; 0,-0.5 0,0.5
3D body: height 0.8, standoff 0.05, extent -4.025,-3.025 4.025,3.025